# Altium footprint library DF11-12DS-2DSA.PcbLib: 1 footprints
Each footprint in its own frame and in the unit in brackets; x right, y up, seen from the top. Pads: shape width x height; smd on the part's side, far side on the other; paste and mask are expansions set on the pad; w line width, h text height; cw(c..) or ccw(c..) is an arc to the next point about the centre after c.
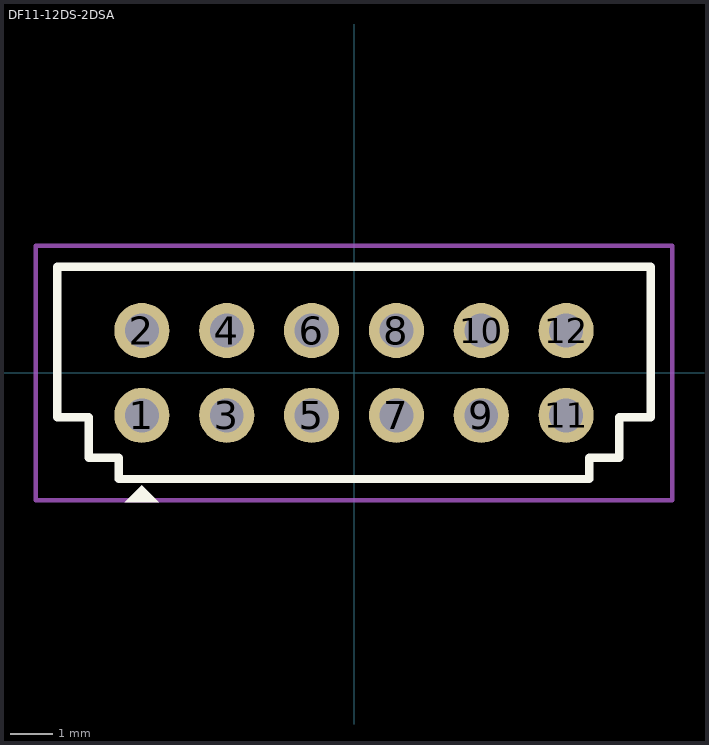
[diagram p0: the footprint, top view; thin cyan lines are the x and y axes]

## DF11-12DS-2DSA [mm]
pads (12):
  round 1.3 hole 0.8: 1(-5,-1) 2(-5,1) 3(-3,-1) 4(-3,1) 5(-1,-1) 6(-1,1) 7(1,-1) 8(1,1) 9(3,-1) 10(3,1) 11(5,-1) 12(5,1)
Top Overlay:
  region: -4.6,-3.05 -5.4,-3.05 -5,-2.65
  lines w0.2: 5.549,-2.5 -5.55,-2.5 -5.55,-2 -6.25,-2 -6.25,-1.05 -7,-1.05 -7,2.5 7,2.5 7,-1.05 6.25,-1.05 6.25,-2 5.55,-2 5.55,-2.5
Top Courtyard:
  lines w0.1: -7.5,-3 -7.5,-2.5 -7.5,3 7.5,3 7.5,-3 -7.5,-3
3D body "DF11-12DS-2DSA.stp": height 6.25, standoff -2.95, extent -7.004,-2.5 6.996,2.5